# Altium schematic symbol library Gan_cuk converter (3).SchLib: 4 symbols
Pins are listed as number, name and electrical type; pins without a type are passive.

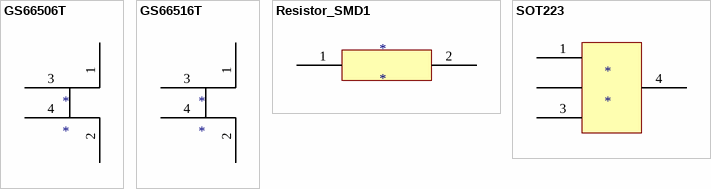
[diagram p0: symbols GS66506T to SOT223]

## GS66506T
designator *
footprint GS66506T (Top cooled 650V enhancement mode GaN transistor)
pins: 1, 2, 3, 4

## GS66516T
designator *
footprint GS66516T (Top cooled 650V enhancement mode GaN transistor)
pins: 1, 2, 3, 4

## Resistor_SMD1
designator *
footprint Resistor_SMD1 (RES SMD 392 OHM 1% 1/2W 1206)
pins: 1, 2

## SOT223
designator *
footprint SOT-223
pins: 1, 2, 3, 4